# Altium schematic symbol library 2SC2412K.Schlib: 1 symbol
Pins are listed as number, name and electrical type; pins without a type are passive.

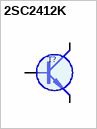
[diagram p0: symbol 2SC2412K]

## 2SC2412K
designator T?
SOT23     50V 0.15mA 180MHz 3.5p (2SA1037)
pins: 1 B, 2 E (oe), 3 C (oc)
1 alternate drawing of the same symbol